# Altium footprint library Connector_Samtec_HLE_SMD.PcbLib: 290 footprints (part 16 of 24)
Each footprint in its own frame and in the unit in brackets; x right, y up, seen from the top. Pads: shape width x height; smd on the part's side, far side on the other; paste and mask are expansions set on the pad; w line width, h text height; cw(c..) or ccw(c..) is an arc to the next point about the centre after c.
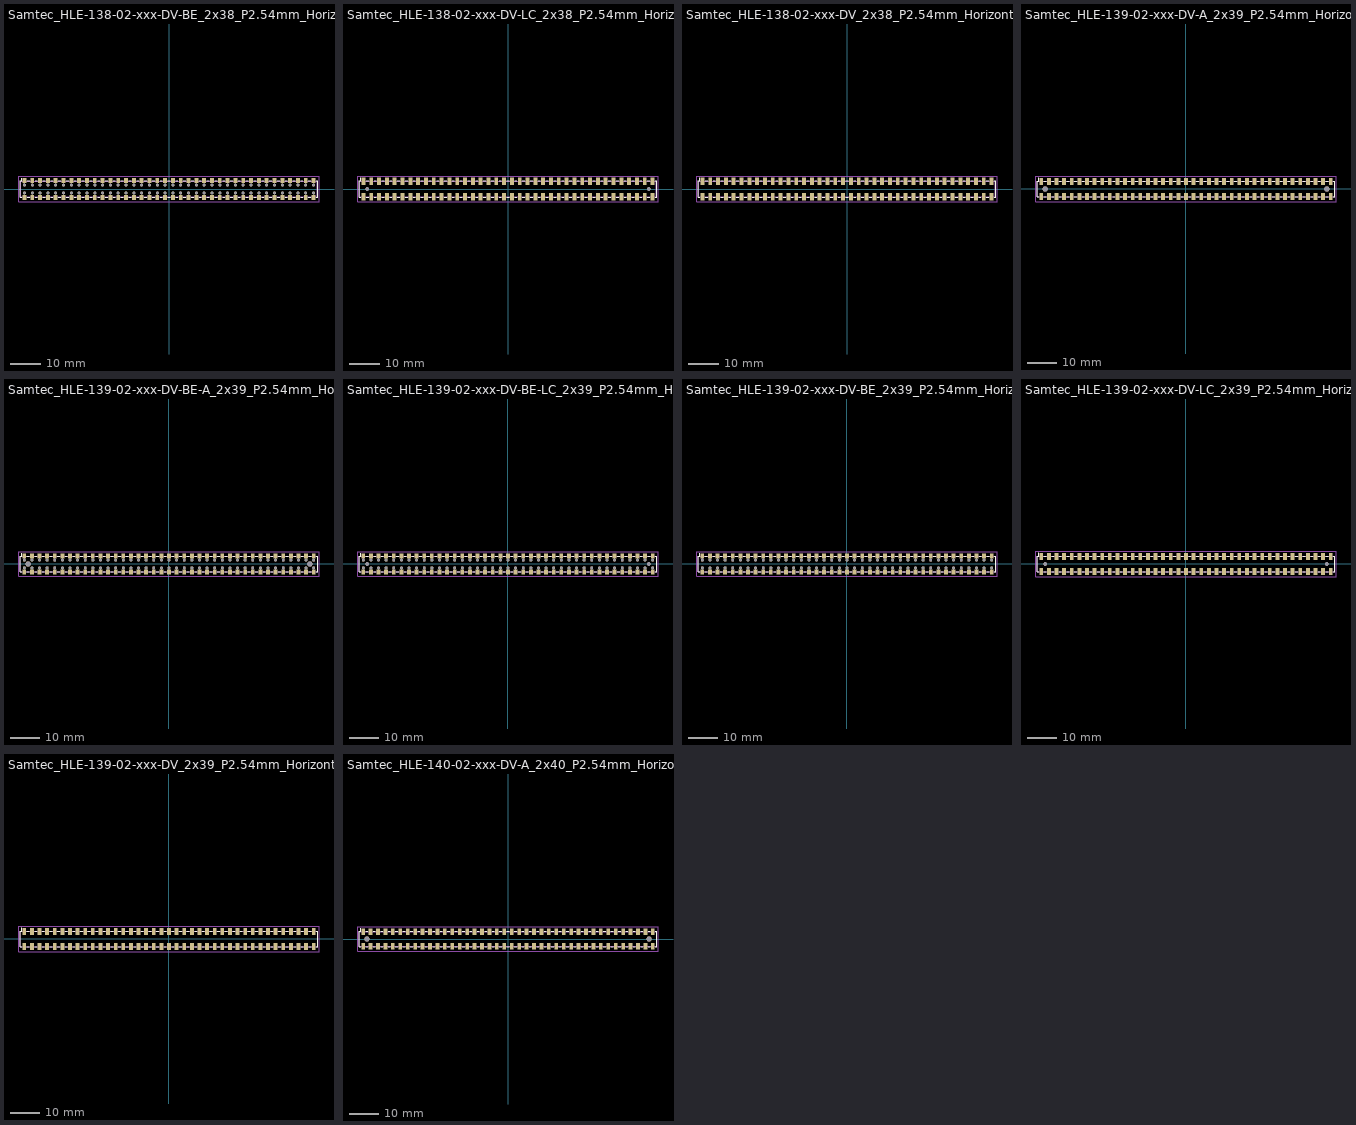
[diagram p15: the footprints below, top view; thin cyan lines are the x and y axes]

## Samtec_HLE-138-02-xxx-DV-BE_2x38_P2.54mm_Horizontal [mm]
pads (152):
  rect 1.27x1.68 smd: 1(-46.99,2.72) 2(-46.99,-2.72) 3(-44.45,2.72) 4(-44.45,-2.72) 5(-41.91,2.72) 6(-41.91,-2.72) 7(-39.37,2.72) 8(-39.37,-2.72) 9(-36.83,2.72) 10(-36.83,-2.72) 11(-34.29,2.72) 12(-34.29,-2.72) 13(-31.75,2.72) 14(-31.75,-2.72) 15(-29.21,2.72) 16(-29.21,-2.72) 17(-26.67,2.72) 18(-26.67,-2.72) 19(-24.13,2.72) 20(-24.13,-2.72) 21(-21.59,2.72) 22(-21.59,-2.72) 23(-19.05,2.72) 24(-19.05,-2.72) 25(-16.51,2.72) 26(-16.51,-2.72) 27(-13.97,2.72) 28(-13.97,-2.72) 29(-11.43,2.72) 30(-11.43,-2.72) 31(-8.89,2.72) 32(-8.89,-2.72) 33(-6.35,2.72) 34(-6.35,-2.72) 35(-3.81,2.72) 36(-3.81,-2.72) 37(-1.27,2.72) 38(-1.27,-2.72) 39(1.27,2.72) 40(1.27,-2.72) 41(3.81,2.72) 42(3.81,-2.72) 43(6.35,2.72) 44(6.35,-2.72) 45(8.89,2.72) 46(8.89,-2.72) 47(11.43,2.72) 48(11.43,-2.72) 49(13.97,2.72) 50(13.97,-2.72) 51(16.51,2.72) 52(16.51,-2.72) 53(19.05,2.72) 54(19.05,-2.72) 55(21.59,2.72) 56(21.59,-2.72) 57(24.13,2.72) 58(24.13,-2.72) 59(26.67,2.72) 60(26.67,-2.72) 61(29.21,2.72) 62(29.21,-2.72) 63(31.75,2.72) 64(31.75,-2.72) 65(34.29,2.72) 66(34.29,-2.72) 67(36.83,2.72) 68(36.83,-2.72) 69(39.37,2.72) 70(39.37,-2.72) 71(41.91,2.72) 72(41.91,-2.72) 73(44.45,2.72) 74(44.45,-2.72) 75(46.99,2.72) 76(46.99,-2.72)
  round 0.97 hole 0.97: Un1(-46.99,1.27) Un2(-46.99,-1.27) Un3(-44.45,1.27) Un4(-44.45,-1.27) Un5(-41.91,1.27) Un6(-41.91,-1.27) Un7(-39.37,1.27) Un8(-39.37,-1.27) Un9(-36.83,1.27) Un10(-36.83,-1.27) Un11(-34.29,1.27) Un12(-34.29,-1.27) Un13(-31.75,1.27) Un14(-31.75,-1.27) Un15(-29.21,1.27) Un16(-29.21,-1.27) Un17(-26.67,1.27) Un18(-26.67,-1.27) Un19(-24.13,1.27) Un20(-24.13,-1.27) Un21(-21.59,1.27) Un22(-21.59,-1.27) Un23(-19.05,1.27) Un24(-19.05,-1.27) Un25(-16.51,1.27) Un26(-16.51,-1.27) Un27(-13.97,1.27) Un28(-13.97,-1.27) Un29(-11.43,1.27) Un30(-11.43,-1.27) Un31(-8.89,1.27) Un32(-8.89,-1.27) Un33(-6.35,1.27) Un34(-6.35,-1.27) Un35(-3.81,1.27) Un36(-3.81,-1.27) Un37(-1.27,1.27) Un38(-1.27,-1.27) Un39(1.27,1.27) Un40(1.27,-1.27) Un41(3.81,1.27) Un42(3.81,-1.27) Un43(6.35,1.27) Un44(6.35,-1.27) Un45(8.89,1.27) Un46(8.89,-1.27) Un47(11.43,1.27) Un48(11.43,-1.27) Un49(13.97,1.27) Un50(13.97,-1.27) Un51(16.51,1.27) Un52(16.51,-1.27) Un53(19.05,1.27) Un54(19.05,-1.27) Un55(21.59,1.27) Un56(21.59,-1.27) Un57(24.13,1.27) Un58(24.13,-1.27) Un59(26.67,1.27) Un60(26.67,-1.27) Un61(29.21,1.27) Un62(29.21,-1.27) Un63(31.75,1.27) Un64(31.75,-1.27) Un65(34.29,1.27) Un66(34.29,-1.27) Un67(36.83,1.27) Un68(36.83,-1.27) Un69(39.37,1.27) Un70(39.37,-1.27) Un71(41.91,1.27) Un72(41.91,-1.27) Un73(44.45,1.27) Un74(44.45,-1.27) Un75(46.99,1.27) Un76(46.99,-1.27)
F.SilkS:
  lines w0.254: -47.885,-2.65 -48.37,-2.65 -48.37,2.65 -47.885,2.65 -47.885,3.56 ; -46.095,-2.65 -45.345,-2.65 ; -46.095,2.65 -45.345,2.65 ; -43.555,-2.65 -42.805,-2.65 ; -43.555,2.65 -42.805,2.65 ; -41.015,-2.65 -40.265,-2.65 ; -41.015,2.65 -40.265,2.65 ; -38.475,-2.65 -37.725,-2.65 ; -38.475,2.65 -37.725,2.65 ; -35.935,-2.65 -35.185,-2.65 ; -35.935,2.65 -35.185,2.65 ; -33.395,-2.65 -32.645,-2.65 ; -33.395,2.65 -32.645,2.65 ; -30.855,-2.65 -30.105,-2.65 ; -30.855,2.65 -30.105,2.65 ; -28.315,-2.65 -27.565,-2.65 ; -28.315,2.65 -27.565,2.65 ; -25.775,-2.65 -25.025,-2.65 ; -25.775,2.65 -25.025,2.65 ; -23.235,-2.65 -22.485,-2.65 ; -23.235,2.65 -22.485,2.65 ; -20.695,-2.65 -19.945,-2.65 ; -20.695,2.65 -19.945,2.65 ; -18.155,-2.65 -17.405,-2.65 ; -18.155,2.65 -17.405,2.65 ; -15.615,-2.65 -14.865,-2.65 ; -15.615,2.65 -14.865,2.65 ; -13.075,-2.65 -12.325,-2.65 ; -13.075,2.65 -12.325,2.65 ; -10.535,-2.65 -9.785,-2.65 ; -10.535,2.65 -9.785,2.65 ; -7.995,-2.65 -7.245,-2.65 ; -7.995,2.65 -7.245,2.65 ; -5.455,-2.65 -4.705,-2.65 ; -5.455,2.65 -4.705,2.65 ; -2.915,-2.65 -2.165,-2.65 ; -2.915,2.65 -2.165,2.65 ; -0.375,-2.65 0.375,-2.65 ; -0.375,2.65 0.375,2.65 ; 2.165,-2.65 2.915,-2.65 ; 2.165,2.65 2.915,2.65 ; 4.705,-2.65 5.455,-2.65 ; 4.705,2.65 5.455,2.65 ; 7.245,-2.65 7.995,-2.65 ; 7.245,2.65 7.995,2.65 ; 9.785,-2.65 10.535,-2.65 ; 9.785,2.65 10.535,2.65 ; 12.325,-2.65 13.075,-2.65 ; 12.325,2.65 13.075,2.65 ; 14.865,-2.65 15.615,-2.65 ; 14.865,2.65 15.615,2.65 ; 17.405,-2.65 18.155,-2.65 ; 17.405,2.65 18.155,2.65 ; 19.945,-2.65 20.695,-2.65 ; 19.945,2.65 20.695,2.65 ; 22.485,-2.65 23.235,-2.65 ; 22.485,2.65 23.235,2.65 ; 25.025,-2.65 25.775,-2.65 ; 25.025,2.65 25.775,2.65 ; 27.565,-2.65 28.315,-2.65 ; 27.565,2.65 28.315,2.65 ; 30.105,-2.65 30.855,-2.65 ; 30.105,2.65 30.855,2.65 ; 32.645,-2.65 33.395,-2.65 ; 32.645,2.65 33.395,2.65 ; 35.185,-2.65 35.935,-2.65 ; 35.185,2.65 35.935,2.65 ; 37.725,-2.65 38.475,-2.65 ; 37.725,2.65 38.475,2.65 ; 40.265,-2.65 41.015,-2.65 ; 40.265,2.65 41.015,2.65 ; 42.805,-2.65 43.555,-2.65 ; 42.805,2.65 43.555,2.65 ; 45.345,-2.65 46.095,-2.65 ; 45.345,2.65 46.095,2.65 ; 47.885,-2.65 48.37,-2.65 48.37,2.65 47.885,2.65
Top Assembly:
  lines w0.254: -47.49,2.54 -46.99,1.833 -46.49,2.54 ; -48.26,-2.54 48.26,-2.54 48.26,2.54 -48.26,2.54 -48.26,-2.54
  text "'.Designator'" at -4.047,-2.68 h1
Top Courtyard:
  lines w0.254: -48.76,-4.07 48.76,-4.07 48.76,4.07 -48.76,4.07 -48.76,-4.07
Top Designator:
  text ".Designator" at -7.618,-0.508 h1.52

## Samtec_HLE-138-02-xxx-DV-LC_2x38_P2.54mm_Horizontal [mm]
pads (78):
  rect 1.27x2.29 smd: 1(-46.99,2.525) 2(-46.99,-2.525) 3(-44.45,2.525) 4(-44.45,-2.525) 5(-41.91,2.525) 6(-41.91,-2.525) 7(-39.37,2.525) 8(-39.37,-2.525) 9(-36.83,2.525) 10(-36.83,-2.525) 11(-34.29,2.525) 12(-34.29,-2.525) 13(-31.75,2.525) 14(-31.75,-2.525) 15(-29.21,2.525) 16(-29.21,-2.525) 17(-26.67,2.525) 18(-26.67,-2.525) 19(-24.13,2.525) 20(-24.13,-2.525) 21(-21.59,2.525) 22(-21.59,-2.525) 23(-19.05,2.525) 24(-19.05,-2.525) 25(-16.51,2.525) 26(-16.51,-2.525) 27(-13.97,2.525) 28(-13.97,-2.525) 29(-11.43,2.525) 30(-11.43,-2.525) 31(-8.89,2.525) 32(-8.89,-2.525) 33(-6.35,2.525) 34(-6.35,-2.525) 35(-3.81,2.525) 36(-3.81,-2.525) 37(-1.27,2.525) 38(-1.27,-2.525) 39(1.27,2.525) 40(1.27,-2.525) 41(3.81,2.525) 42(3.81,-2.525) 43(6.35,2.525) 44(6.35,-2.525) 45(8.89,2.525) 46(8.89,-2.525) 47(11.43,2.525) 48(11.43,-2.525) 49(13.97,2.525) 50(13.97,-2.525) 51(16.51,2.525) 52(16.51,-2.525) 53(19.05,2.525) 54(19.05,-2.525) 55(21.59,2.525) 56(21.59,-2.525) 57(24.13,2.525) 58(24.13,-2.525) 59(26.67,2.525) 60(26.67,-2.525) 61(29.21,2.525) 62(29.21,-2.525) 63(31.75,2.525) 64(31.75,-2.525) 65(34.29,2.525) 66(34.29,-2.525) 67(36.83,2.525) 68(36.83,-2.525) 69(39.37,2.525) 70(39.37,-2.525) 71(41.91,2.525) 72(41.91,-2.525) 73(44.45,2.525) 74(44.45,-2.525) 75(46.99,2.525) 76(46.99,-2.525)
  round 1.19 hole 1.19: Un1(-45.72,0) Un2(45.72,0)
F.SilkS:
  lines w0.254: -47.885,-2.65 -48.37,-2.65 -48.37,2.65 -47.885,2.65 -47.885,3.67 ; -46.095,-2.65 -45.345,-2.65 ; -46.095,2.65 -45.345,2.65 ; -43.555,-2.65 -42.805,-2.65 ; -43.555,2.65 -42.805,2.65 ; -41.015,-2.65 -40.265,-2.65 ; -41.015,2.65 -40.265,2.65 ; -38.475,-2.65 -37.725,-2.65 ; -38.475,2.65 -37.725,2.65 ; -35.935,-2.65 -35.185,-2.65 ; -35.935,2.65 -35.185,2.65 ; -33.395,-2.65 -32.645,-2.65 ; -33.395,2.65 -32.645,2.65 ; -30.855,-2.65 -30.105,-2.65 ; -30.855,2.65 -30.105,2.65 ; -28.315,-2.65 -27.565,-2.65 ; -28.315,2.65 -27.565,2.65 ; -25.775,-2.65 -25.025,-2.65 ; -25.775,2.65 -25.025,2.65 ; -23.235,-2.65 -22.485,-2.65 ; -23.235,2.65 -22.485,2.65 ; -20.695,-2.65 -19.945,-2.65 ; -20.695,2.65 -19.945,2.65 ; -18.155,-2.65 -17.405,-2.65 ; -18.155,2.65 -17.405,2.65 ; -15.615,-2.65 -14.865,-2.65 ; -15.615,2.65 -14.865,2.65 ; -13.075,-2.65 -12.325,-2.65 ; -13.075,2.65 -12.325,2.65 ; -10.535,-2.65 -9.785,-2.65 ; -10.535,2.65 -9.785,2.65 ; -7.995,-2.65 -7.245,-2.65 ; -7.995,2.65 -7.245,2.65 ; -5.455,-2.65 -4.705,-2.65 ; -5.455,2.65 -4.705,2.65 ; -2.915,-2.65 -2.165,-2.65 ; -2.915,2.65 -2.165,2.65 ; -0.375,-2.65 0.375,-2.65 ; -0.375,2.65 0.375,2.65 ; 2.165,-2.65 2.915,-2.65 ; 2.165,2.65 2.915,2.65 ; 4.705,-2.65 5.455,-2.65 ; 4.705,2.65 5.455,2.65 ; 7.245,-2.65 7.995,-2.65 ; 7.245,2.65 7.995,2.65 ; 9.785,-2.65 10.535,-2.65 ; 9.785,2.65 10.535,2.65 ; 12.325,-2.65 13.075,-2.65 ; 12.325,2.65 13.075,2.65 ; 14.865,-2.65 15.615,-2.65 ; 14.865,2.65 15.615,2.65 ; 17.405,-2.65 18.155,-2.65 ; 17.405,2.65 18.155,2.65 ; 19.945,-2.65 20.695,-2.65 ; 19.945,2.65 20.695,2.65 ; 22.485,-2.65 23.235,-2.65 ; 22.485,2.65 23.235,2.65 ; 25.025,-2.65 25.775,-2.65 ; 25.025,2.65 25.775,2.65 ; 27.565,-2.65 28.315,-2.65 ; 27.565,2.65 28.315,2.65 ; 30.105,-2.65 30.855,-2.65 ; 30.105,2.65 30.855,2.65 ; 32.645,-2.65 33.395,-2.65 ; 32.645,2.65 33.395,2.65 ; 35.185,-2.65 35.935,-2.65 ; 35.185,2.65 35.935,2.65 ; 37.725,-2.65 38.475,-2.65 ; 37.725,2.65 38.475,2.65 ; 40.265,-2.65 41.015,-2.65 ; 40.265,2.65 41.015,2.65 ; 42.805,-2.65 43.555,-2.65 ; 42.805,2.65 43.555,2.65 ; 45.345,-2.65 46.095,-2.65 ; 45.345,2.65 46.095,2.65 ; 47.885,-2.65 48.37,-2.65 48.37,2.65 47.885,2.65
Top Assembly:
  lines w0.254: -47.49,2.54 -46.99,1.833 -46.49,2.54 ; -48.26,-2.54 48.26,-2.54 48.26,2.54 -48.26,2.54 -48.26,-2.54
  text "'.Designator'" at -4.047,-2.68 h1
Top Courtyard:
  lines w0.254: -48.76,-4.17 48.76,-4.17 48.76,4.17 -48.76,4.17 -48.76,-4.17
Top Designator:
  text ".Designator" at -7.618,-0.508 h1.52

## Samtec_HLE-138-02-xxx-DV_2x38_P2.54mm_Horizontal [mm]
pads (76):
  rect 1.27x2.29 smd: 1(-46.99,2.525) 2(-46.99,-2.525) 3(-44.45,2.525) 4(-44.45,-2.525) 5(-41.91,2.525) 6(-41.91,-2.525) 7(-39.37,2.525) 8(-39.37,-2.525) 9(-36.83,2.525) 10(-36.83,-2.525) 11(-34.29,2.525) 12(-34.29,-2.525) 13(-31.75,2.525) 14(-31.75,-2.525) 15(-29.21,2.525) 16(-29.21,-2.525) 17(-26.67,2.525) 18(-26.67,-2.525) 19(-24.13,2.525) 20(-24.13,-2.525) 21(-21.59,2.525) 22(-21.59,-2.525) 23(-19.05,2.525) 24(-19.05,-2.525) 25(-16.51,2.525) 26(-16.51,-2.525) 27(-13.97,2.525) 28(-13.97,-2.525) 29(-11.43,2.525) 30(-11.43,-2.525) 31(-8.89,2.525) 32(-8.89,-2.525) 33(-6.35,2.525) 34(-6.35,-2.525) 35(-3.81,2.525) 36(-3.81,-2.525) 37(-1.27,2.525) 38(-1.27,-2.525) 39(1.27,2.525) 40(1.27,-2.525) 41(3.81,2.525) 42(3.81,-2.525) 43(6.35,2.525) 44(6.35,-2.525) 45(8.89,2.525) 46(8.89,-2.525) 47(11.43,2.525) 48(11.43,-2.525) 49(13.97,2.525) 50(13.97,-2.525) 51(16.51,2.525) 52(16.51,-2.525) 53(19.05,2.525) 54(19.05,-2.525) 55(21.59,2.525) 56(21.59,-2.525) 57(24.13,2.525) 58(24.13,-2.525) 59(26.67,2.525) 60(26.67,-2.525) 61(29.21,2.525) 62(29.21,-2.525) 63(31.75,2.525) 64(31.75,-2.525) 65(34.29,2.525) 66(34.29,-2.525) 67(36.83,2.525) 68(36.83,-2.525) 69(39.37,2.525) 70(39.37,-2.525) 71(41.91,2.525) 72(41.91,-2.525) 73(44.45,2.525) 74(44.45,-2.525) 75(46.99,2.525) 76(46.99,-2.525)
F.SilkS:
  lines w0.254: -47.885,-2.65 -48.37,-2.65 -48.37,2.65 -47.885,2.65 -47.885,3.67 ; -46.095,-2.65 -45.345,-2.65 ; -46.095,2.65 -45.345,2.65 ; -43.555,-2.65 -42.805,-2.65 ; -43.555,2.65 -42.805,2.65 ; -41.015,-2.65 -40.265,-2.65 ; -41.015,2.65 -40.265,2.65 ; -38.475,-2.65 -37.725,-2.65 ; -38.475,2.65 -37.725,2.65 ; -35.935,-2.65 -35.185,-2.65 ; -35.935,2.65 -35.185,2.65 ; -33.395,-2.65 -32.645,-2.65 ; -33.395,2.65 -32.645,2.65 ; -30.855,-2.65 -30.105,-2.65 ; -30.855,2.65 -30.105,2.65 ; -28.315,-2.65 -27.565,-2.65 ; -28.315,2.65 -27.565,2.65 ; -25.775,-2.65 -25.025,-2.65 ; -25.775,2.65 -25.025,2.65 ; -23.235,-2.65 -22.485,-2.65 ; -23.235,2.65 -22.485,2.65 ; -20.695,-2.65 -19.945,-2.65 ; -20.695,2.65 -19.945,2.65 ; -18.155,-2.65 -17.405,-2.65 ; -18.155,2.65 -17.405,2.65 ; -15.615,-2.65 -14.865,-2.65 ; -15.615,2.65 -14.865,2.65 ; -13.075,-2.65 -12.325,-2.65 ; -13.075,2.65 -12.325,2.65 ; -10.535,-2.65 -9.785,-2.65 ; -10.535,2.65 -9.785,2.65 ; -7.995,-2.65 -7.245,-2.65 ; -7.995,2.65 -7.245,2.65 ; -5.455,-2.65 -4.705,-2.65 ; -5.455,2.65 -4.705,2.65 ; -2.915,-2.65 -2.165,-2.65 ; -2.915,2.65 -2.165,2.65 ; -0.375,-2.65 0.375,-2.65 ; -0.375,2.65 0.375,2.65 ; 2.165,-2.65 2.915,-2.65 ; 2.165,2.65 2.915,2.65 ; 4.705,-2.65 5.455,-2.65 ; 4.705,2.65 5.455,2.65 ; 7.245,-2.65 7.995,-2.65 ; 7.245,2.65 7.995,2.65 ; 9.785,-2.65 10.535,-2.65 ; 9.785,2.65 10.535,2.65 ; 12.325,-2.65 13.075,-2.65 ; 12.325,2.65 13.075,2.65 ; 14.865,-2.65 15.615,-2.65 ; 14.865,2.65 15.615,2.65 ; 17.405,-2.65 18.155,-2.65 ; 17.405,2.65 18.155,2.65 ; 19.945,-2.65 20.695,-2.65 ; 19.945,2.65 20.695,2.65 ; 22.485,-2.65 23.235,-2.65 ; 22.485,2.65 23.235,2.65 ; 25.025,-2.65 25.775,-2.65 ; 25.025,2.65 25.775,2.65 ; 27.565,-2.65 28.315,-2.65 ; 27.565,2.65 28.315,2.65 ; 30.105,-2.65 30.855,-2.65 ; 30.105,2.65 30.855,2.65 ; 32.645,-2.65 33.395,-2.65 ; 32.645,2.65 33.395,2.65 ; 35.185,-2.65 35.935,-2.65 ; 35.185,2.65 35.935,2.65 ; 37.725,-2.65 38.475,-2.65 ; 37.725,2.65 38.475,2.65 ; 40.265,-2.65 41.015,-2.65 ; 40.265,2.65 41.015,2.65 ; 42.805,-2.65 43.555,-2.65 ; 42.805,2.65 43.555,2.65 ; 45.345,-2.65 46.095,-2.65 ; 45.345,2.65 46.095,2.65 ; 47.885,-2.65 48.37,-2.65 48.37,2.65 47.885,2.65
Top Assembly:
  lines w0.254: -47.49,2.54 -46.99,1.833 -46.49,2.54 ; -48.26,-2.54 48.26,-2.54 48.26,2.54 -48.26,2.54 -48.26,-2.54
  text "'.Designator'" at -4.047,-2.68 h1
Top Courtyard:
  lines w0.254: -48.76,-4.17 48.76,-4.17 48.76,4.17 -48.76,4.17 -48.76,-4.17
Top Designator:
  text ".Designator" at -7.618,-0.508 h1.52

## Samtec_HLE-139-02-xxx-DV-A_2x39_P2.54mm_Horizontal [mm]
pads (80):
  rect 1.27x2.29 smd: 1(-48.26,2.525) 2(-48.26,-2.525) 3(-45.72,2.525) 4(-45.72,-2.525) 5(-43.18,2.525) 6(-43.18,-2.525) 7(-40.64,2.525) 8(-40.64,-2.525) 9(-38.1,2.525) 10(-38.1,-2.525) 11(-35.56,2.525) 12(-35.56,-2.525) 13(-33.02,2.525) 14(-33.02,-2.525) 15(-30.48,2.525) 16(-30.48,-2.525) 17(-27.94,2.525) 18(-27.94,-2.525) 19(-25.4,2.525) 20(-25.4,-2.525) 21(-22.86,2.525) 22(-22.86,-2.525) 23(-20.32,2.525) 24(-20.32,-2.525) 25(-17.78,2.525) 26(-17.78,-2.525) 27(-15.24,2.525) 28(-15.24,-2.525) 29(-12.7,2.525) 30(-12.7,-2.525) 31(-10.16,2.525) 32(-10.16,-2.525) 33(-7.62,2.525) 34(-7.62,-2.525) 35(-5.08,2.525) 36(-5.08,-2.525) 37(-2.54,2.525) 38(-2.54,-2.525) 39(0,2.525) 40(0,-2.525) 41(2.54,2.525) 42(2.54,-2.525) 43(5.08,2.525) 44(5.08,-2.525) 45(7.62,2.525) 46(7.62,-2.525) 47(10.16,2.525) 48(10.16,-2.525) 49(12.7,2.525) 50(12.7,-2.525) 51(15.24,2.525) 52(15.24,-2.525) 53(17.78,2.525) 54(17.78,-2.525) 55(20.32,2.525) 56(20.32,-2.525) 57(22.86,2.525) 58(22.86,-2.525) 59(25.4,2.525) 60(25.4,-2.525) 61(27.94,2.525) 62(27.94,-2.525) 63(30.48,2.525) 64(30.48,-2.525) 65(33.02,2.525) 66(33.02,-2.525) 67(35.56,2.525) 68(35.56,-2.525) 69(38.1,2.525) 70(38.1,-2.525) 71(40.64,2.525) 72(40.64,-2.525) 73(43.18,2.525) 74(43.18,-2.525) 75(45.72,2.525) 76(45.72,-2.525) 77(48.26,2.525) 78(48.26,-2.525)
  round 1.78 hole 1.78: Un1(-46.99,0) Un2(46.99,0)
F.SilkS:
  lines w0.254: -49.155,-2.65 -49.64,-2.65 -49.64,2.65 -49.155,2.65 -49.155,3.67 ; -47.365,-2.65 -46.615,-2.65 ; -47.365,2.65 -46.615,2.65 ; -44.825,-2.65 -44.075,-2.65 ; -44.825,2.65 -44.075,2.65 ; -42.285,-2.65 -41.535,-2.65 ; -42.285,2.65 -41.535,2.65 ; -39.745,-2.65 -38.995,-2.65 ; -39.745,2.65 -38.995,2.65 ; -37.205,-2.65 -36.455,-2.65 ; -37.205,2.65 -36.455,2.65 ; -34.665,-2.65 -33.915,-2.65 ; -34.665,2.65 -33.915,2.65 ; -32.125,-2.65 -31.375,-2.65 ; -32.125,2.65 -31.375,2.65 ; -29.585,-2.65 -28.835,-2.65 ; -29.585,2.65 -28.835,2.65 ; -27.045,-2.65 -26.295,-2.65 ; -27.045,2.65 -26.295,2.65 ; -24.505,-2.65 -23.755,-2.65 ; -24.505,2.65 -23.755,2.65 ; -21.965,-2.65 -21.215,-2.65 ; -21.965,2.65 -21.215,2.65 ; -19.425,-2.65 -18.675,-2.65 ; -19.425,2.65 -18.675,2.65 ; -16.885,-2.65 -16.135,-2.65 ; -16.885,2.65 -16.135,2.65 ; -14.345,-2.65 -13.595,-2.65 ; -14.345,2.65 -13.595,2.65 ; -11.805,-2.65 -11.055,-2.65 ; -11.805,2.65 -11.055,2.65 ; -9.265,-2.65 -8.515,-2.65 ; -9.265,2.65 -8.515,2.65 ; -6.725,-2.65 -5.975,-2.65 ; -6.725,2.65 -5.975,2.65 ; -4.185,-2.65 -3.435,-2.65 ; -4.185,2.65 -3.435,2.65 ; -1.645,-2.65 -0.895,-2.65 ; -1.645,2.65 -0.895,2.65 ; 0.895,-2.65 1.645,-2.65 ; 0.895,2.65 1.645,2.65 ; 3.435,-2.65 4.185,-2.65 ; 3.435,2.65 4.185,2.65 ; 5.975,-2.65 6.725,-2.65 ; 5.975,2.65 6.725,2.65 ; 8.515,-2.65 9.265,-2.65 ; 8.515,2.65 9.265,2.65 ; 11.055,-2.65 11.805,-2.65 ; 11.055,2.65 11.805,2.65 ; 13.595,-2.65 14.345,-2.65 ; 13.595,2.65 14.345,2.65 ; 16.135,-2.65 16.885,-2.65 ; 16.135,2.65 16.885,2.65 ; 18.675,-2.65 19.425,-2.65 ; 18.675,2.65 19.425,2.65 ; 21.215,-2.65 21.965,-2.65 ; 21.215,2.65 21.965,2.65 ; 23.755,-2.65 24.505,-2.65 ; 23.755,2.65 24.505,2.65 ; 26.295,-2.65 27.045,-2.65 ; 26.295,2.65 27.045,2.65 ; 28.835,-2.65 29.585,-2.65 ; 28.835,2.65 29.585,2.65 ; 31.375,-2.65 32.125,-2.65 ; 31.375,2.65 32.125,2.65 ; 33.915,-2.65 34.665,-2.65 ; 33.915,2.65 34.665,2.65 ; 36.455,-2.65 37.205,-2.65 ; 36.455,2.65 37.205,2.65 ; 38.995,-2.65 39.745,-2.65 ; 38.995,2.65 39.745,2.65 ; 41.535,-2.65 42.285,-2.65 ; 41.535,2.65 42.285,2.65 ; 44.075,-2.65 44.825,-2.65 ; 44.075,2.65 44.825,2.65 ; 46.615,-2.65 47.365,-2.65 ; 46.615,2.65 47.365,2.65 ; 49.155,-2.65 49.64,-2.65 49.64,2.65 49.155,2.65
Top Assembly:
  lines w0.254: -48.76,2.54 -48.26,1.833 -47.76,2.54 ; -49.53,-2.54 49.53,-2.54 49.53,2.54 -49.53,2.54 -49.53,-2.54
  text "'.Designator'" at -4.047,-2.68 h1
Top Courtyard:
  lines w0.254: -50.03,-4.17 50.03,-4.17 50.03,4.17 -50.03,4.17 -50.03,-4.17
Top Designator:
  text ".Designator" at -7.618,-0.508 h1.52

## Samtec_HLE-139-02-xxx-DV-BE-A_2x39_P2.54mm_Horizontal [mm]
pads (158):
  rect 1.27x1.68 smd: 1(-48.26,2.72) 2(-48.26,-2.72) 3(-45.72,2.72) 4(-45.72,-2.72) 5(-43.18,2.72) 6(-43.18,-2.72) 7(-40.64,2.72) 8(-40.64,-2.72) 9(-38.1,2.72) 10(-38.1,-2.72) 11(-35.56,2.72) 12(-35.56,-2.72) 13(-33.02,2.72) 14(-33.02,-2.72) 15(-30.48,2.72) 16(-30.48,-2.72) 17(-27.94,2.72) 18(-27.94,-2.72) 19(-25.4,2.72) 20(-25.4,-2.72) 21(-22.86,2.72) 22(-22.86,-2.72) 23(-20.32,2.72) 24(-20.32,-2.72) 25(-17.78,2.72) 26(-17.78,-2.72) 27(-15.24,2.72) 28(-15.24,-2.72) 29(-12.7,2.72) 30(-12.7,-2.72) 31(-10.16,2.72) 32(-10.16,-2.72) 33(-7.62,2.72) 34(-7.62,-2.72) 35(-5.08,2.72) 36(-5.08,-2.72) 37(-2.54,2.72) 38(-2.54,-2.72) 39(0,2.72) 40(0,-2.72) 41(2.54,2.72) 42(2.54,-2.72) 43(5.08,2.72) 44(5.08,-2.72) 45(7.62,2.72) 46(7.62,-2.72) 47(10.16,2.72) 48(10.16,-2.72) 49(12.7,2.72) 50(12.7,-2.72) 51(15.24,2.72) 52(15.24,-2.72) 53(17.78,2.72) 54(17.78,-2.72) 55(20.32,2.72) 56(20.32,-2.72) 57(22.86,2.72) 58(22.86,-2.72) 59(25.4,2.72) 60(25.4,-2.72) 61(27.94,2.72) 62(27.94,-2.72) 63(30.48,2.72) 64(30.48,-2.72) 65(33.02,2.72) 66(33.02,-2.72) 67(35.56,2.72) 68(35.56,-2.72) 69(38.1,2.72) 70(38.1,-2.72) 71(40.64,2.72) 72(40.64,-2.72) 73(43.18,2.72) 74(43.18,-2.72) 75(45.72,2.72) 76(45.72,-2.72) 77(48.26,2.72) 78(48.26,-2.72)
  round 0.97 hole 0.97: Un1(-48.26,1.27) Un2(-48.26,-1.27) Un4(-45.72,1.27) Un5(-45.72,-1.27) Un6(-43.18,1.27) Un7(-43.18,-1.27) Un8(-40.64,1.27) Un9(-40.64,-1.27) Un10(-38.1,1.27) Un11(-38.1,-1.27) Un12(-35.56,1.27) Un13(-35.56,-1.27) Un14(-33.02,1.27) Un15(-33.02,-1.27) Un16(-30.48,1.27) Un17(-30.48,-1.27) Un18(-27.94,1.27) Un19(-27.94,-1.27) Un20(-25.4,1.27) Un21(-25.4,-1.27) Un22(-22.86,1.27) Un23(-22.86,-1.27) Un24(-20.32,1.27) Un25(-20.32,-1.27) Un26(-17.78,1.27) Un27(-17.78,-1.27) Un28(-15.24,1.27) Un29(-15.24,-1.27) Un30(-12.7,1.27) Un31(-12.7,-1.27) Un32(-10.16,1.27) Un33(-10.16,-1.27) Un34(-7.62,1.27) Un35(-7.62,-1.27) Un36(-5.08,1.27) Un37(-5.08,-1.27) Un38(-2.54,1.27) Un39(-2.54,-1.27) Un40(0,1.27) Un41(0,-1.27) Un42(2.54,1.27) Un43(2.54,-1.27) Un44(5.08,1.27) Un45(5.08,-1.27) Un46(7.62,1.27) Un47(7.62,-1.27) Un48(10.16,1.27) Un49(10.16,-1.27) Un50(12.7,1.27) Un51(12.7,-1.27) Un52(15.24,1.27) Un53(15.24,-1.27) Un54(17.78,1.27) Un55(17.78,-1.27) Un56(20.32,1.27) Un57(20.32,-1.27) Un58(22.86,1.27) Un59(22.86,-1.27) Un60(25.4,1.27) Un61(25.4,-1.27) Un62(27.94,1.27) Un63(27.94,-1.27) Un64(30.48,1.27) Un65(30.48,-1.27) Un66(33.02,1.27) Un67(33.02,-1.27) Un68(35.56,1.27) Un69(35.56,-1.27) Un70(38.1,1.27) Un71(38.1,-1.27) Un72(40.64,1.27) Un73(40.64,-1.27) Un74(43.18,1.27) Un75(43.18,-1.27) Un76(45.72,1.27) Un77(45.72,-1.27) Un79(48.26,1.27) Un80(48.26,-1.27)
  round 1.78 hole 1.78: Un3(-46.99,0) Un78(46.99,0)
F.SilkS:
  lines w0.254: -49.155,-2.65 -49.64,-2.65 -49.64,2.65 -49.155,2.65 -49.155,3.56 ; -47.365,-2.65 -46.615,-2.65 ; -47.365,2.65 -46.615,2.65 ; -44.825,-2.65 -44.075,-2.65 ; -44.825,2.65 -44.075,2.65 ; -42.285,-2.65 -41.535,-2.65 ; -42.285,2.65 -41.535,2.65 ; -39.745,-2.65 -38.995,-2.65 ; -39.745,2.65 -38.995,2.65 ; -37.205,-2.65 -36.455,-2.65 ; -37.205,2.65 -36.455,2.65 ; -34.665,-2.65 -33.915,-2.65 ; -34.665,2.65 -33.915,2.65 ; -32.125,-2.65 -31.375,-2.65 ; -32.125,2.65 -31.375,2.65 ; -29.585,-2.65 -28.835,-2.65 ; -29.585,2.65 -28.835,2.65 ; -27.045,-2.65 -26.295,-2.65 ; -27.045,2.65 -26.295,2.65 ; -24.505,-2.65 -23.755,-2.65 ; -24.505,2.65 -23.755,2.65 ; -21.965,-2.65 -21.215,-2.65 ; -21.965,2.65 -21.215,2.65 ; -19.425,-2.65 -18.675,-2.65 ; -19.425,2.65 -18.675,2.65 ; -16.885,-2.65 -16.135,-2.65 ; -16.885,2.65 -16.135,2.65 ; -14.345,-2.65 -13.595,-2.65 ; -14.345,2.65 -13.595,2.65 ; -11.805,-2.65 -11.055,-2.65 ; -11.805,2.65 -11.055,2.65 ; -9.265,-2.65 -8.515,-2.65 ; -9.265,2.65 -8.515,2.65 ; -6.725,-2.65 -5.975,-2.65 ; -6.725,2.65 -5.975,2.65 ; -4.185,-2.65 -3.435,-2.65 ; -4.185,2.65 -3.435,2.65 ; -1.645,-2.65 -0.895,-2.65 ; -1.645,2.65 -0.895,2.65 ; 0.895,-2.65 1.645,-2.65 ; 0.895,2.65 1.645,2.65 ; 3.435,-2.65 4.185,-2.65 ; 3.435,2.65 4.185,2.65 ; 5.975,-2.65 6.725,-2.65 ; 5.975,2.65 6.725,2.65 ; 8.515,-2.65 9.265,-2.65 ; 8.515,2.65 9.265,2.65 ; 11.055,-2.65 11.805,-2.65 ; 11.055,2.65 11.805,2.65 ; 13.595,-2.65 14.345,-2.65 ; 13.595,2.65 14.345,2.65 ; 16.135,-2.65 16.885,-2.65 ; 16.135,2.65 16.885,2.65 ; 18.675,-2.65 19.425,-2.65 ; 18.675,2.65 19.425,2.65 ; 21.215,-2.65 21.965,-2.65 ; 21.215,2.65 21.965,2.65 ; 23.755,-2.65 24.505,-2.65 ; 23.755,2.65 24.505,2.65 ; 26.295,-2.65 27.045,-2.65 ; 26.295,2.65 27.045,2.65 ; 28.835,-2.65 29.585,-2.65 ; 28.835,2.65 29.585,2.65 ; 31.375,-2.65 32.125,-2.65 ; 31.375,2.65 32.125,2.65 ; 33.915,-2.65 34.665,-2.65 ; 33.915,2.65 34.665,2.65 ; 36.455,-2.65 37.205,-2.65 ; 36.455,2.65 37.205,2.65 ; 38.995,-2.65 39.745,-2.65 ; 38.995,2.65 39.745,2.65 ; 41.535,-2.65 42.285,-2.65 ; 41.535,2.65 42.285,2.65 ; 44.075,-2.65 44.825,-2.65 ; 44.075,2.65 44.825,2.65 ; 46.615,-2.65 47.365,-2.65 ; 46.615,2.65 47.365,2.65 ; 49.155,-2.65 49.64,-2.65 49.64,2.65 49.155,2.65
Top Assembly:
  lines w0.254: -48.76,2.54 -48.26,1.833 -47.76,2.54 ; -49.53,-2.54 49.53,-2.54 49.53,2.54 -49.53,2.54 -49.53,-2.54
  text "'.Designator'" at -4.047,-2.68 h1
Top Courtyard:
  lines w0.254: -50.03,-4.07 50.03,-4.07 50.03,4.07 -50.03,4.07 -50.03,-4.07
Top Designator:
  text ".Designator" at -7.618,-0.508 h1.52

## Samtec_HLE-139-02-xxx-DV-BE-LC_2x39_P2.54mm_Horizontal [mm]
pads (158):
  rect 1.27x1.68 smd: 1(-48.26,2.72) 2(-48.26,-2.72) 3(-45.72,2.72) 4(-45.72,-2.72) 5(-43.18,2.72) 6(-43.18,-2.72) 7(-40.64,2.72) 8(-40.64,-2.72) 9(-38.1,2.72) 10(-38.1,-2.72) 11(-35.56,2.72) 12(-35.56,-2.72) 13(-33.02,2.72) 14(-33.02,-2.72) 15(-30.48,2.72) 16(-30.48,-2.72) 17(-27.94,2.72) 18(-27.94,-2.72) 19(-25.4,2.72) 20(-25.4,-2.72) 21(-22.86,2.72) 22(-22.86,-2.72) 23(-20.32,2.72) 24(-20.32,-2.72) 25(-17.78,2.72) 26(-17.78,-2.72) 27(-15.24,2.72) 28(-15.24,-2.72) 29(-12.7,2.72) 30(-12.7,-2.72) 31(-10.16,2.72) 32(-10.16,-2.72) 33(-7.62,2.72) 34(-7.62,-2.72) 35(-5.08,2.72) 36(-5.08,-2.72) 37(-2.54,2.72) 38(-2.54,-2.72) 39(0,2.72) 40(0,-2.72) 41(2.54,2.72) 42(2.54,-2.72) 43(5.08,2.72) 44(5.08,-2.72) 45(7.62,2.72) 46(7.62,-2.72) 47(10.16,2.72) 48(10.16,-2.72) 49(12.7,2.72) 50(12.7,-2.72) 51(15.24,2.72) 52(15.24,-2.72) 53(17.78,2.72) 54(17.78,-2.72) 55(20.32,2.72) 56(20.32,-2.72) 57(22.86,2.72) 58(22.86,-2.72) 59(25.4,2.72) 60(25.4,-2.72) 61(27.94,2.72) 62(27.94,-2.72) 63(30.48,2.72) 64(30.48,-2.72) 65(33.02,2.72) 66(33.02,-2.72) 67(35.56,2.72) 68(35.56,-2.72) 69(38.1,2.72) 70(38.1,-2.72) 71(40.64,2.72) 72(40.64,-2.72) 73(43.18,2.72) 74(43.18,-2.72) 75(45.72,2.72) 76(45.72,-2.72) 77(48.26,2.72) 78(48.26,-2.72)
  round 0.97 hole 0.97: Un1(-48.26,1.27) Un2(-48.26,-1.27) Un4(-45.72,1.27) Un5(-45.72,-1.27) Un6(-43.18,1.27) Un7(-43.18,-1.27) Un8(-40.64,1.27) Un9(-40.64,-1.27) Un10(-38.1,1.27) Un11(-38.1,-1.27) Un12(-35.56,1.27) Un13(-35.56,-1.27) Un14(-33.02,1.27) Un15(-33.02,-1.27) Un16(-30.48,1.27) Un17(-30.48,-1.27) Un18(-27.94,1.27) Un19(-27.94,-1.27) Un20(-25.4,1.27) Un21(-25.4,-1.27) Un22(-22.86,1.27) Un23(-22.86,-1.27) Un24(-20.32,1.27) Un25(-20.32,-1.27) Un26(-17.78,1.27) Un27(-17.78,-1.27) Un28(-15.24,1.27) Un29(-15.24,-1.27) Un30(-12.7,1.27) Un31(-12.7,-1.27) Un32(-10.16,1.27) Un33(-10.16,-1.27) Un34(-7.62,1.27) Un35(-7.62,-1.27) Un36(-5.08,1.27) Un37(-5.08,-1.27) Un38(-2.54,1.27) Un39(-2.54,-1.27) Un40(0,1.27) Un41(0,-1.27) Un42(2.54,1.27) Un43(2.54,-1.27) Un44(5.08,1.27) Un45(5.08,-1.27) Un46(7.62,1.27) Un47(7.62,-1.27) Un48(10.16,1.27) Un49(10.16,-1.27) Un50(12.7,1.27) Un51(12.7,-1.27) Un52(15.24,1.27) Un53(15.24,-1.27) Un54(17.78,1.27) Un55(17.78,-1.27) Un56(20.32,1.27) Un57(20.32,-1.27) Un58(22.86,1.27) Un59(22.86,-1.27) Un60(25.4,1.27) Un61(25.4,-1.27) Un62(27.94,1.27) Un63(27.94,-1.27) Un64(30.48,1.27) Un65(30.48,-1.27) Un66(33.02,1.27) Un67(33.02,-1.27) Un68(35.56,1.27) Un69(35.56,-1.27) Un70(38.1,1.27) Un71(38.1,-1.27) Un72(40.64,1.27) Un73(40.64,-1.27) Un74(43.18,1.27) Un75(43.18,-1.27) Un76(45.72,1.27) Un77(45.72,-1.27) Un79(48.26,1.27) Un80(48.26,-1.27)
  round 1.19 hole 1.19: Un3(-46.99,0) Un78(46.99,0)
F.SilkS:
  lines w0.254: -49.155,-2.65 -49.64,-2.65 -49.64,2.65 -49.155,2.65 -49.155,3.56 ; -47.365,-2.65 -46.615,-2.65 ; -47.365,2.65 -46.615,2.65 ; -44.825,-2.65 -44.075,-2.65 ; -44.825,2.65 -44.075,2.65 ; -42.285,-2.65 -41.535,-2.65 ; -42.285,2.65 -41.535,2.65 ; -39.745,-2.65 -38.995,-2.65 ; -39.745,2.65 -38.995,2.65 ; -37.205,-2.65 -36.455,-2.65 ; -37.205,2.65 -36.455,2.65 ; -34.665,-2.65 -33.915,-2.65 ; -34.665,2.65 -33.915,2.65 ; -32.125,-2.65 -31.375,-2.65 ; -32.125,2.65 -31.375,2.65 ; -29.585,-2.65 -28.835,-2.65 ; -29.585,2.65 -28.835,2.65 ; -27.045,-2.65 -26.295,-2.65 ; -27.045,2.65 -26.295,2.65 ; -24.505,-2.65 -23.755,-2.65 ; -24.505,2.65 -23.755,2.65 ; -21.965,-2.65 -21.215,-2.65 ; -21.965,2.65 -21.215,2.65 ; -19.425,-2.65 -18.675,-2.65 ; -19.425,2.65 -18.675,2.65 ; -16.885,-2.65 -16.135,-2.65 ; -16.885,2.65 -16.135,2.65 ; -14.345,-2.65 -13.595,-2.65 ; -14.345,2.65 -13.595,2.65 ; -11.805,-2.65 -11.055,-2.65 ; -11.805,2.65 -11.055,2.65 ; -9.265,-2.65 -8.515,-2.65 ; -9.265,2.65 -8.515,2.65 ; -6.725,-2.65 -5.975,-2.65 ; -6.725,2.65 -5.975,2.65 ; -4.185,-2.65 -3.435,-2.65 ; -4.185,2.65 -3.435,2.65 ; -1.645,-2.65 -0.895,-2.65 ; -1.645,2.65 -0.895,2.65 ; 0.895,-2.65 1.645,-2.65 ; 0.895,2.65 1.645,2.65 ; 3.435,-2.65 4.185,-2.65 ; 3.435,2.65 4.185,2.65 ; 5.975,-2.65 6.725,-2.65 ; 5.975,2.65 6.725,2.65 ; 8.515,-2.65 9.265,-2.65 ; 8.515,2.65 9.265,2.65 ; 11.055,-2.65 11.805,-2.65 ; 11.055,2.65 11.805,2.65 ; 13.595,-2.65 14.345,-2.65 ; 13.595,2.65 14.345,2.65 ; 16.135,-2.65 16.885,-2.65 ; 16.135,2.65 16.885,2.65 ; 18.675,-2.65 19.425,-2.65 ; 18.675,2.65 19.425,2.65 ; 21.215,-2.65 21.965,-2.65 ; 21.215,2.65 21.965,2.65 ; 23.755,-2.65 24.505,-2.65 ; 23.755,2.65 24.505,2.65 ; 26.295,-2.65 27.045,-2.65 ; 26.295,2.65 27.045,2.65 ; 28.835,-2.65 29.585,-2.65 ; 28.835,2.65 29.585,2.65 ; 31.375,-2.65 32.125,-2.65 ; 31.375,2.65 32.125,2.65 ; 33.915,-2.65 34.665,-2.65 ; 33.915,2.65 34.665,2.65 ; 36.455,-2.65 37.205,-2.65 ; 36.455,2.65 37.205,2.65 ; 38.995,-2.65 39.745,-2.65 ; 38.995,2.65 39.745,2.65 ; 41.535,-2.65 42.285,-2.65 ; 41.535,2.65 42.285,2.65 ; 44.075,-2.65 44.825,-2.65 ; 44.075,2.65 44.825,2.65 ; 46.615,-2.65 47.365,-2.65 ; 46.615,2.65 47.365,2.65 ; 49.155,-2.65 49.64,-2.65 49.64,2.65 49.155,2.65
Top Assembly:
  lines w0.254: -48.76,2.54 -48.26,1.833 -47.76,2.54 ; -49.53,-2.54 49.53,-2.54 49.53,2.54 -49.53,2.54 -49.53,-2.54
  text "'.Designator'" at -4.047,-2.68 h1
Top Courtyard:
  lines w0.254: -50.03,-4.07 50.03,-4.07 50.03,4.07 -50.03,4.07 -50.03,-4.07
Top Designator:
  text ".Designator" at -7.618,-0.508 h1.52

## Samtec_HLE-139-02-xxx-DV-BE_2x39_P2.54mm_Horizontal [mm]
pads (156):
  rect 1.27x1.68 smd: 1(-48.26,2.72) 2(-48.26,-2.72) 3(-45.72,2.72) 4(-45.72,-2.72) 5(-43.18,2.72) 6(-43.18,-2.72) 7(-40.64,2.72) 8(-40.64,-2.72) 9(-38.1,2.72) 10(-38.1,-2.72) 11(-35.56,2.72) 12(-35.56,-2.72) 13(-33.02,2.72) 14(-33.02,-2.72) 15(-30.48,2.72) 16(-30.48,-2.72) 17(-27.94,2.72) 18(-27.94,-2.72) 19(-25.4,2.72) 20(-25.4,-2.72) 21(-22.86,2.72) 22(-22.86,-2.72) 23(-20.32,2.72) 24(-20.32,-2.72) 25(-17.78,2.72) 26(-17.78,-2.72) 27(-15.24,2.72) 28(-15.24,-2.72) 29(-12.7,2.72) 30(-12.7,-2.72) 31(-10.16,2.72) 32(-10.16,-2.72) 33(-7.62,2.72) 34(-7.62,-2.72) 35(-5.08,2.72) 36(-5.08,-2.72) 37(-2.54,2.72) 38(-2.54,-2.72) 39(0,2.72) 40(0,-2.72) 41(2.54,2.72) 42(2.54,-2.72) 43(5.08,2.72) 44(5.08,-2.72) 45(7.62,2.72) 46(7.62,-2.72) 47(10.16,2.72) 48(10.16,-2.72) 49(12.7,2.72) 50(12.7,-2.72) 51(15.24,2.72) 52(15.24,-2.72) 53(17.78,2.72) 54(17.78,-2.72) 55(20.32,2.72) 56(20.32,-2.72) 57(22.86,2.72) 58(22.86,-2.72) 59(25.4,2.72) 60(25.4,-2.72) 61(27.94,2.72) 62(27.94,-2.72) 63(30.48,2.72) 64(30.48,-2.72) 65(33.02,2.72) 66(33.02,-2.72) 67(35.56,2.72) 68(35.56,-2.72) 69(38.1,2.72) 70(38.1,-2.72) 71(40.64,2.72) 72(40.64,-2.72) 73(43.18,2.72) 74(43.18,-2.72) 75(45.72,2.72) 76(45.72,-2.72) 77(48.26,2.72) 78(48.26,-2.72)
  round 0.97 hole 0.97: Un1(-48.26,1.27) Un2(-48.26,-1.27) Un3(-45.72,1.27) Un4(-45.72,-1.27) Un5(-43.18,1.27) Un6(-43.18,-1.27) Un7(-40.64,1.27) Un8(-40.64,-1.27) Un9(-38.1,1.27) Un10(-38.1,-1.27) Un11(-35.56,1.27) Un12(-35.56,-1.27) Un13(-33.02,1.27) Un14(-33.02,-1.27) Un15(-30.48,1.27) Un16(-30.48,-1.27) Un17(-27.94,1.27) Un18(-27.94,-1.27) Un19(-25.4,1.27) Un20(-25.4,-1.27) Un21(-22.86,1.27) Un22(-22.86,-1.27) Un23(-20.32,1.27) Un24(-20.32,-1.27) Un25(-17.78,1.27) Un26(-17.78,-1.27) Un27(-15.24,1.27) Un28(-15.24,-1.27) Un29(-12.7,1.27) Un30(-12.7,-1.27) Un31(-10.16,1.27) Un32(-10.16,-1.27) Un33(-7.62,1.27) Un34(-7.62,-1.27) Un35(-5.08,1.27) Un36(-5.08,-1.27) Un37(-2.54,1.27) Un38(-2.54,-1.27) Un39(0,1.27) Un40(0,-1.27) Un41(2.54,1.27) Un42(2.54,-1.27) Un43(5.08,1.27) Un44(5.08,-1.27) Un45(7.62,1.27) Un46(7.62,-1.27) Un47(10.16,1.27) Un48(10.16,-1.27) Un49(12.7,1.27) Un50(12.7,-1.27) Un51(15.24,1.27) Un52(15.24,-1.27) Un53(17.78,1.27) Un54(17.78,-1.27) Un55(20.32,1.27) Un56(20.32,-1.27) Un57(22.86,1.27) Un58(22.86,-1.27) Un59(25.4,1.27) Un60(25.4,-1.27) Un61(27.94,1.27) Un62(27.94,-1.27) Un63(30.48,1.27) Un64(30.48,-1.27) Un65(33.02,1.27) Un66(33.02,-1.27) Un67(35.56,1.27) Un68(35.56,-1.27) Un69(38.1,1.27) Un70(38.1,-1.27) Un71(40.64,1.27) Un72(40.64,-1.27) Un73(43.18,1.27) Un74(43.18,-1.27) Un75(45.72,1.27) Un76(45.72,-1.27) Un77(48.26,1.27) Un78(48.26,-1.27)
F.SilkS:
  lines w0.254: -49.155,-2.65 -49.64,-2.65 -49.64,2.65 -49.155,2.65 -49.155,3.56 ; -47.365,-2.65 -46.615,-2.65 ; -47.365,2.65 -46.615,2.65 ; -44.825,-2.65 -44.075,-2.65 ; -44.825,2.65 -44.075,2.65 ; -42.285,-2.65 -41.535,-2.65 ; -42.285,2.65 -41.535,2.65 ; -39.745,-2.65 -38.995,-2.65 ; -39.745,2.65 -38.995,2.65 ; -37.205,-2.65 -36.455,-2.65 ; -37.205,2.65 -36.455,2.65 ; -34.665,-2.65 -33.915,-2.65 ; -34.665,2.65 -33.915,2.65 ; -32.125,-2.65 -31.375,-2.65 ; -32.125,2.65 -31.375,2.65 ; -29.585,-2.65 -28.835,-2.65 ; -29.585,2.65 -28.835,2.65 ; -27.045,-2.65 -26.295,-2.65 ; -27.045,2.65 -26.295,2.65 ; -24.505,-2.65 -23.755,-2.65 ; -24.505,2.65 -23.755,2.65 ; -21.965,-2.65 -21.215,-2.65 ; -21.965,2.65 -21.215,2.65 ; -19.425,-2.65 -18.675,-2.65 ; -19.425,2.65 -18.675,2.65 ; -16.885,-2.65 -16.135,-2.65 ; -16.885,2.65 -16.135,2.65 ; -14.345,-2.65 -13.595,-2.65 ; -14.345,2.65 -13.595,2.65 ; -11.805,-2.65 -11.055,-2.65 ; -11.805,2.65 -11.055,2.65 ; -9.265,-2.65 -8.515,-2.65 ; -9.265,2.65 -8.515,2.65 ; -6.725,-2.65 -5.975,-2.65 ; -6.725,2.65 -5.975,2.65 ; -4.185,-2.65 -3.435,-2.65 ; -4.185,2.65 -3.435,2.65 ; -1.645,-2.65 -0.895,-2.65 ; -1.645,2.65 -0.895,2.65 ; 0.895,-2.65 1.645,-2.65 ; 0.895,2.65 1.645,2.65 ; 3.435,-2.65 4.185,-2.65 ; 3.435,2.65 4.185,2.65 ; 5.975,-2.65 6.725,-2.65 ; 5.975,2.65 6.725,2.65 ; 8.515,-2.65 9.265,-2.65 ; 8.515,2.65 9.265,2.65 ; 11.055,-2.65 11.805,-2.65 ; 11.055,2.65 11.805,2.65 ; 13.595,-2.65 14.345,-2.65 ; 13.595,2.65 14.345,2.65 ; 16.135,-2.65 16.885,-2.65 ; 16.135,2.65 16.885,2.65 ; 18.675,-2.65 19.425,-2.65 ; 18.675,2.65 19.425,2.65 ; 21.215,-2.65 21.965,-2.65 ; 21.215,2.65 21.965,2.65 ; 23.755,-2.65 24.505,-2.65 ; 23.755,2.65 24.505,2.65 ; 26.295,-2.65 27.045,-2.65 ; 26.295,2.65 27.045,2.65 ; 28.835,-2.65 29.585,-2.65 ; 28.835,2.65 29.585,2.65 ; 31.375,-2.65 32.125,-2.65 ; 31.375,2.65 32.125,2.65 ; 33.915,-2.65 34.665,-2.65 ; 33.915,2.65 34.665,2.65 ; 36.455,-2.65 37.205,-2.65 ; 36.455,2.65 37.205,2.65 ; 38.995,-2.65 39.745,-2.65 ; 38.995,2.65 39.745,2.65 ; 41.535,-2.65 42.285,-2.65 ; 41.535,2.65 42.285,2.65 ; 44.075,-2.65 44.825,-2.65 ; 44.075,2.65 44.825,2.65 ; 46.615,-2.65 47.365,-2.65 ; 46.615,2.65 47.365,2.65 ; 49.155,-2.65 49.64,-2.65 49.64,2.65 49.155,2.65
Top Assembly:
  lines w0.254: -48.76,2.54 -48.26,1.833 -47.76,2.54 ; -49.53,-2.54 49.53,-2.54 49.53,2.54 -49.53,2.54 -49.53,-2.54
  text "'.Designator'" at -4.047,-2.68 h1
Top Courtyard:
  lines w0.254: -50.03,-4.07 50.03,-4.07 50.03,4.07 -50.03,4.07 -50.03,-4.07
Top Designator:
  text ".Designator" at -7.618,-0.508 h1.52

## Samtec_HLE-139-02-xxx-DV-LC_2x39_P2.54mm_Horizontal [mm]
pads (80):
  rect 1.27x2.29 smd: 1(-48.26,2.525) 2(-48.26,-2.525) 3(-45.72,2.525) 4(-45.72,-2.525) 5(-43.18,2.525) 6(-43.18,-2.525) 7(-40.64,2.525) 8(-40.64,-2.525) 9(-38.1,2.525) 10(-38.1,-2.525) 11(-35.56,2.525) 12(-35.56,-2.525) 13(-33.02,2.525) 14(-33.02,-2.525) 15(-30.48,2.525) 16(-30.48,-2.525) 17(-27.94,2.525) 18(-27.94,-2.525) 19(-25.4,2.525) 20(-25.4,-2.525) 21(-22.86,2.525) 22(-22.86,-2.525) 23(-20.32,2.525) 24(-20.32,-2.525) 25(-17.78,2.525) 26(-17.78,-2.525) 27(-15.24,2.525) 28(-15.24,-2.525) 29(-12.7,2.525) 30(-12.7,-2.525) 31(-10.16,2.525) 32(-10.16,-2.525) 33(-7.62,2.525) 34(-7.62,-2.525) 35(-5.08,2.525) 36(-5.08,-2.525) 37(-2.54,2.525) 38(-2.54,-2.525) 39(0,2.525) 40(0,-2.525) 41(2.54,2.525) 42(2.54,-2.525) 43(5.08,2.525) 44(5.08,-2.525) 45(7.62,2.525) 46(7.62,-2.525) 47(10.16,2.525) 48(10.16,-2.525) 49(12.7,2.525) 50(12.7,-2.525) 51(15.24,2.525) 52(15.24,-2.525) 53(17.78,2.525) 54(17.78,-2.525) 55(20.32,2.525) 56(20.32,-2.525) 57(22.86,2.525) 58(22.86,-2.525) 59(25.4,2.525) 60(25.4,-2.525) 61(27.94,2.525) 62(27.94,-2.525) 63(30.48,2.525) 64(30.48,-2.525) 65(33.02,2.525) 66(33.02,-2.525) 67(35.56,2.525) 68(35.56,-2.525) 69(38.1,2.525) 70(38.1,-2.525) 71(40.64,2.525) 72(40.64,-2.525) 73(43.18,2.525) 74(43.18,-2.525) 75(45.72,2.525) 76(45.72,-2.525) 77(48.26,2.525) 78(48.26,-2.525)
  round 1.19 hole 1.19: Un1(-46.99,0) Un2(46.99,0)
F.SilkS:
  lines w0.254: -49.155,-2.65 -49.64,-2.65 -49.64,2.65 -49.155,2.65 -49.155,3.67 ; -47.365,-2.65 -46.615,-2.65 ; -47.365,2.65 -46.615,2.65 ; -44.825,-2.65 -44.075,-2.65 ; -44.825,2.65 -44.075,2.65 ; -42.285,-2.65 -41.535,-2.65 ; -42.285,2.65 -41.535,2.65 ; -39.745,-2.65 -38.995,-2.65 ; -39.745,2.65 -38.995,2.65 ; -37.205,-2.65 -36.455,-2.65 ; -37.205,2.65 -36.455,2.65 ; -34.665,-2.65 -33.915,-2.65 ; -34.665,2.65 -33.915,2.65 ; -32.125,-2.65 -31.375,-2.65 ; -32.125,2.65 -31.375,2.65 ; -29.585,-2.65 -28.835,-2.65 ; -29.585,2.65 -28.835,2.65 ; -27.045,-2.65 -26.295,-2.65 ; -27.045,2.65 -26.295,2.65 ; -24.505,-2.65 -23.755,-2.65 ; -24.505,2.65 -23.755,2.65 ; -21.965,-2.65 -21.215,-2.65 ; -21.965,2.65 -21.215,2.65 ; -19.425,-2.65 -18.675,-2.65 ; -19.425,2.65 -18.675,2.65 ; -16.885,-2.65 -16.135,-2.65 ; -16.885,2.65 -16.135,2.65 ; -14.345,-2.65 -13.595,-2.65 ; -14.345,2.65 -13.595,2.65 ; -11.805,-2.65 -11.055,-2.65 ; -11.805,2.65 -11.055,2.65 ; -9.265,-2.65 -8.515,-2.65 ; -9.265,2.65 -8.515,2.65 ; -6.725,-2.65 -5.975,-2.65 ; -6.725,2.65 -5.975,2.65 ; -4.185,-2.65 -3.435,-2.65 ; -4.185,2.65 -3.435,2.65 ; -1.645,-2.65 -0.895,-2.65 ; -1.645,2.65 -0.895,2.65 ; 0.895,-2.65 1.645,-2.65 ; 0.895,2.65 1.645,2.65 ; 3.435,-2.65 4.185,-2.65 ; 3.435,2.65 4.185,2.65 ; 5.975,-2.65 6.725,-2.65 ; 5.975,2.65 6.725,2.65 ; 8.515,-2.65 9.265,-2.65 ; 8.515,2.65 9.265,2.65 ; 11.055,-2.65 11.805,-2.65 ; 11.055,2.65 11.805,2.65 ; 13.595,-2.65 14.345,-2.65 ; 13.595,2.65 14.345,2.65 ; 16.135,-2.65 16.885,-2.65 ; 16.135,2.65 16.885,2.65 ; 18.675,-2.65 19.425,-2.65 ; 18.675,2.65 19.425,2.65 ; 21.215,-2.65 21.965,-2.65 ; 21.215,2.65 21.965,2.65 ; 23.755,-2.65 24.505,-2.65 ; 23.755,2.65 24.505,2.65 ; 26.295,-2.65 27.045,-2.65 ; 26.295,2.65 27.045,2.65 ; 28.835,-2.65 29.585,-2.65 ; 28.835,2.65 29.585,2.65 ; 31.375,-2.65 32.125,-2.65 ; 31.375,2.65 32.125,2.65 ; 33.915,-2.65 34.665,-2.65 ; 33.915,2.65 34.665,2.65 ; 36.455,-2.65 37.205,-2.65 ; 36.455,2.65 37.205,2.65 ; 38.995,-2.65 39.745,-2.65 ; 38.995,2.65 39.745,2.65 ; 41.535,-2.65 42.285,-2.65 ; 41.535,2.65 42.285,2.65 ; 44.075,-2.65 44.825,-2.65 ; 44.075,2.65 44.825,2.65 ; 46.615,-2.65 47.365,-2.65 ; 46.615,2.65 47.365,2.65 ; 49.155,-2.65 49.64,-2.65 49.64,2.65 49.155,2.65
Top Assembly:
  lines w0.254: -48.76,2.54 -48.26,1.833 -47.76,2.54 ; -49.53,-2.54 49.53,-2.54 49.53,2.54 -49.53,2.54 -49.53,-2.54
  text "'.Designator'" at -4.047,-2.68 h1
Top Courtyard:
  lines w0.254: -50.03,-4.17 50.03,-4.17 50.03,4.17 -50.03,4.17 -50.03,-4.17
Top Designator:
  text ".Designator" at -7.618,-0.508 h1.52

## Samtec_HLE-139-02-xxx-DV_2x39_P2.54mm_Horizontal [mm]
pads (78):
  rect 1.27x2.29 smd: 1(-48.26,2.525) 2(-48.26,-2.525) 3(-45.72,2.525) 4(-45.72,-2.525) 5(-43.18,2.525) 6(-43.18,-2.525) 7(-40.64,2.525) 8(-40.64,-2.525) 9(-38.1,2.525) 10(-38.1,-2.525) 11(-35.56,2.525) 12(-35.56,-2.525) 13(-33.02,2.525) 14(-33.02,-2.525) 15(-30.48,2.525) 16(-30.48,-2.525) 17(-27.94,2.525) 18(-27.94,-2.525) 19(-25.4,2.525) 20(-25.4,-2.525) 21(-22.86,2.525) 22(-22.86,-2.525) 23(-20.32,2.525) 24(-20.32,-2.525) 25(-17.78,2.525) 26(-17.78,-2.525) 27(-15.24,2.525) 28(-15.24,-2.525) 29(-12.7,2.525) 30(-12.7,-2.525) 31(-10.16,2.525) 32(-10.16,-2.525) 33(-7.62,2.525) 34(-7.62,-2.525) 35(-5.08,2.525) 36(-5.08,-2.525) 37(-2.54,2.525) 38(-2.54,-2.525) 39(0,2.525) 40(0,-2.525) 41(2.54,2.525) 42(2.54,-2.525) 43(5.08,2.525) 44(5.08,-2.525) 45(7.62,2.525) 46(7.62,-2.525) 47(10.16,2.525) 48(10.16,-2.525) 49(12.7,2.525) 50(12.7,-2.525) 51(15.24,2.525) 52(15.24,-2.525) 53(17.78,2.525) 54(17.78,-2.525) 55(20.32,2.525) 56(20.32,-2.525) 57(22.86,2.525) 58(22.86,-2.525) 59(25.4,2.525) 60(25.4,-2.525) 61(27.94,2.525) 62(27.94,-2.525) 63(30.48,2.525) 64(30.48,-2.525) 65(33.02,2.525) 66(33.02,-2.525) 67(35.56,2.525) 68(35.56,-2.525) 69(38.1,2.525) 70(38.1,-2.525) 71(40.64,2.525) 72(40.64,-2.525) 73(43.18,2.525) 74(43.18,-2.525) 75(45.72,2.525) 76(45.72,-2.525) 77(48.26,2.525) 78(48.26,-2.525)
F.SilkS:
  lines w0.254: -49.155,-2.65 -49.64,-2.65 -49.64,2.65 -49.155,2.65 -49.155,3.67 ; -47.365,-2.65 -46.615,-2.65 ; -47.365,2.65 -46.615,2.65 ; -44.825,-2.65 -44.075,-2.65 ; -44.825,2.65 -44.075,2.65 ; -42.285,-2.65 -41.535,-2.65 ; -42.285,2.65 -41.535,2.65 ; -39.745,-2.65 -38.995,-2.65 ; -39.745,2.65 -38.995,2.65 ; -37.205,-2.65 -36.455,-2.65 ; -37.205,2.65 -36.455,2.65 ; -34.665,-2.65 -33.915,-2.65 ; -34.665,2.65 -33.915,2.65 ; -32.125,-2.65 -31.375,-2.65 ; -32.125,2.65 -31.375,2.65 ; -29.585,-2.65 -28.835,-2.65 ; -29.585,2.65 -28.835,2.65 ; -27.045,-2.65 -26.295,-2.65 ; -27.045,2.65 -26.295,2.65 ; -24.505,-2.65 -23.755,-2.65 ; -24.505,2.65 -23.755,2.65 ; -21.965,-2.65 -21.215,-2.65 ; -21.965,2.65 -21.215,2.65 ; -19.425,-2.65 -18.675,-2.65 ; -19.425,2.65 -18.675,2.65 ; -16.885,-2.65 -16.135,-2.65 ; -16.885,2.65 -16.135,2.65 ; -14.345,-2.65 -13.595,-2.65 ; -14.345,2.65 -13.595,2.65 ; -11.805,-2.65 -11.055,-2.65 ; -11.805,2.65 -11.055,2.65 ; -9.265,-2.65 -8.515,-2.65 ; -9.265,2.65 -8.515,2.65 ; -6.725,-2.65 -5.975,-2.65 ; -6.725,2.65 -5.975,2.65 ; -4.185,-2.65 -3.435,-2.65 ; -4.185,2.65 -3.435,2.65 ; -1.645,-2.65 -0.895,-2.65 ; -1.645,2.65 -0.895,2.65 ; 0.895,-2.65 1.645,-2.65 ; 0.895,2.65 1.645,2.65 ; 3.435,-2.65 4.185,-2.65 ; 3.435,2.65 4.185,2.65 ; 5.975,-2.65 6.725,-2.65 ; 5.975,2.65 6.725,2.65 ; 8.515,-2.65 9.265,-2.65 ; 8.515,2.65 9.265,2.65 ; 11.055,-2.65 11.805,-2.65 ; 11.055,2.65 11.805,2.65 ; 13.595,-2.65 14.345,-2.65 ; 13.595,2.65 14.345,2.65 ; 16.135,-2.65 16.885,-2.65 ; 16.135,2.65 16.885,2.65 ; 18.675,-2.65 19.425,-2.65 ; 18.675,2.65 19.425,2.65 ; 21.215,-2.65 21.965,-2.65 ; 21.215,2.65 21.965,2.65 ; 23.755,-2.65 24.505,-2.65 ; 23.755,2.65 24.505,2.65 ; 26.295,-2.65 27.045,-2.65 ; 26.295,2.65 27.045,2.65 ; 28.835,-2.65 29.585,-2.65 ; 28.835,2.65 29.585,2.65 ; 31.375,-2.65 32.125,-2.65 ; 31.375,2.65 32.125,2.65 ; 33.915,-2.65 34.665,-2.65 ; 33.915,2.65 34.665,2.65 ; 36.455,-2.65 37.205,-2.65 ; 36.455,2.65 37.205,2.65 ; 38.995,-2.65 39.745,-2.65 ; 38.995,2.65 39.745,2.65 ; 41.535,-2.65 42.285,-2.65 ; 41.535,2.65 42.285,2.65 ; 44.075,-2.65 44.825,-2.65 ; 44.075,2.65 44.825,2.65 ; 46.615,-2.65 47.365,-2.65 ; 46.615,2.65 47.365,2.65 ; 49.155,-2.65 49.64,-2.65 49.64,2.65 49.155,2.65
Top Assembly:
  lines w0.254: -48.76,2.54 -48.26,1.833 -47.76,2.54 ; -49.53,-2.54 49.53,-2.54 49.53,2.54 -49.53,2.54 -49.53,-2.54
  text "'.Designator'" at -4.047,-2.68 h1
Top Courtyard:
  lines w0.254: -50.03,-4.17 50.03,-4.17 50.03,4.17 -50.03,4.17 -50.03,-4.17
Top Designator:
  text ".Designator" at -7.618,-0.508 h1.52

## Samtec_HLE-140-02-xxx-DV-A_2x40_P2.54mm_Horizontal [mm]
pads (82):
  rect 1.27x2.29 smd: 1(-49.53,2.525) 2(-49.53,-2.525) 3(-46.99,2.525) 4(-46.99,-2.525) 5(-44.45,2.525) 6(-44.45,-2.525) 7(-41.91,2.525) 8(-41.91,-2.525) 9(-39.37,2.525) 10(-39.37,-2.525) 11(-36.83,2.525) 12(-36.83,-2.525) 13(-34.29,2.525) 14(-34.29,-2.525) 15(-31.75,2.525) 16(-31.75,-2.525) 17(-29.21,2.525) 18(-29.21,-2.525) 19(-26.67,2.525) 20(-26.67,-2.525) 21(-24.13,2.525) 22(-24.13,-2.525) 23(-21.59,2.525) 24(-21.59,-2.525) 25(-19.05,2.525) 26(-19.05,-2.525) 27(-16.51,2.525) 28(-16.51,-2.525) 29(-13.97,2.525) 30(-13.97,-2.525) 31(-11.43,2.525) 32(-11.43,-2.525) 33(-8.89,2.525) 34(-8.89,-2.525) 35(-6.35,2.525) 36(-6.35,-2.525) 37(-3.81,2.525) 38(-3.81,-2.525) 39(-1.27,2.525) 40(-1.27,-2.525) 41(1.27,2.525) 42(1.27,-2.525) 43(3.81,2.525) 44(3.81,-2.525) 45(6.35,2.525) 46(6.35,-2.525) 47(8.89,2.525) 48(8.89,-2.525) 49(11.43,2.525) 50(11.43,-2.525) 51(13.97,2.525) 52(13.97,-2.525) 53(16.51,2.525) 54(16.51,-2.525) 55(19.05,2.525) 56(19.05,-2.525) 57(21.59,2.525) 58(21.59,-2.525) 59(24.13,2.525) 60(24.13,-2.525) 61(26.67,2.525) 62(26.67,-2.525) 63(29.21,2.525) 64(29.21,-2.525) 65(31.75,2.525) 66(31.75,-2.525) 67(34.29,2.525) 68(34.29,-2.525) 69(36.83,2.525) 70(36.83,-2.525) 71(39.37,2.525) 72(39.37,-2.525) 73(41.91,2.525) 74(41.91,-2.525) 75(44.45,2.525) 76(44.45,-2.525) 77(46.99,2.525) 78(46.99,-2.525) 79(49.53,2.525) 80(49.53,-2.525)
  round 1.78 hole 1.78: Un1(-48.26,0) Un2(48.26,0)
F.SilkS:
  lines w0.254: -50.425,-2.65 -50.91,-2.65 -50.91,2.65 -50.425,2.65 -50.425,3.67 ; -48.635,-2.65 -47.885,-2.65 ; -48.635,2.65 -47.885,2.65 ; -46.095,-2.65 -45.345,-2.65 ; -46.095,2.65 -45.345,2.65 ; -43.555,-2.65 -42.805,-2.65 ; -43.555,2.65 -42.805,2.65 ; -41.015,-2.65 -40.265,-2.65 ; -41.015,2.65 -40.265,2.65 ; -38.475,-2.65 -37.725,-2.65 ; -38.475,2.65 -37.725,2.65 ; -35.935,-2.65 -35.185,-2.65 ; -35.935,2.65 -35.185,2.65 ; -33.395,-2.65 -32.645,-2.65 ; -33.395,2.65 -32.645,2.65 ; -30.855,-2.65 -30.105,-2.65 ; -30.855,2.65 -30.105,2.65 ; -28.315,-2.65 -27.565,-2.65 ; -28.315,2.65 -27.565,2.65 ; -25.775,-2.65 -25.025,-2.65 ; -25.775,2.65 -25.025,2.65 ; -23.235,-2.65 -22.485,-2.65 ; -23.235,2.65 -22.485,2.65 ; -20.695,-2.65 -19.945,-2.65 ; -20.695,2.65 -19.945,2.65 ; -18.155,-2.65 -17.405,-2.65 ; -18.155,2.65 -17.405,2.65 ; -15.615,-2.65 -14.865,-2.65 ; -15.615,2.65 -14.865,2.65 ; -13.075,-2.65 -12.325,-2.65 ; -13.075,2.65 -12.325,2.65 ; -10.535,-2.65 -9.785,-2.65 ; -10.535,2.65 -9.785,2.65 ; -7.995,-2.65 -7.245,-2.65 ; -7.995,2.65 -7.245,2.65 ; -5.455,-2.65 -4.705,-2.65 ; -5.455,2.65 -4.705,2.65 ; -2.915,-2.65 -2.165,-2.65 ; -2.915,2.65 -2.165,2.65 ; -0.375,-2.65 0.375,-2.65 ; -0.375,2.65 0.375,2.65 ; 2.165,-2.65 2.915,-2.65 ; 2.165,2.65 2.915,2.65 ; 4.705,-2.65 5.455,-2.65 ; 4.705,2.65 5.455,2.65 ; 7.245,-2.65 7.995,-2.65 ; 7.245,2.65 7.995,2.65 ; 9.785,-2.65 10.535,-2.65 ; 9.785,2.65 10.535,2.65 ; 12.325,-2.65 13.075,-2.65 ; 12.325,2.65 13.075,2.65 ; 14.865,-2.65 15.615,-2.65 ; 14.865,2.65 15.615,2.65 ; 17.405,-2.65 18.155,-2.65 ; 17.405,2.65 18.155,2.65 ; 19.945,-2.65 20.695,-2.65 ; 19.945,2.65 20.695,2.65 ; 22.485,-2.65 23.235,-2.65 ; 22.485,2.65 23.235,2.65 ; 25.025,-2.65 25.775,-2.65 ; 25.025,2.65 25.775,2.65 ; 27.565,-2.65 28.315,-2.65 ; 27.565,2.65 28.315,2.65 ; 30.105,-2.65 30.855,-2.65 ; 30.105,2.65 30.855,2.65 ; 32.645,-2.65 33.395,-2.65 ; 32.645,2.65 33.395,2.65 ; 35.185,-2.65 35.935,-2.65 ; 35.185,2.65 35.935,2.65 ; 37.725,-2.65 38.475,-2.65 ; 37.725,2.65 38.475,2.65 ; 40.265,-2.65 41.015,-2.65 ; 40.265,2.65 41.015,2.65 ; 42.805,-2.65 43.555,-2.65 ; 42.805,2.65 43.555,2.65 ; 45.345,-2.65 46.095,-2.65 ; 45.345,2.65 46.095,2.65 ; 47.885,-2.65 48.635,-2.65 ; 47.885,2.65 48.635,2.65 ; 50.425,-2.65 50.91,-2.65 50.91,2.65 50.425,2.65
Top Assembly:
  lines w0.254: -50.03,2.54 -49.53,1.833 -49.03,2.54 ; -50.8,-2.54 50.8,-2.54 50.8,2.54 -50.8,2.54 -50.8,-2.54
  text "'.Designator'" at -4.047,-2.68 h1
Top Courtyard:
  lines w0.254: -51.3,-4.17 51.3,-4.17 51.3,4.17 -51.3,4.17 -51.3,-4.17
Top Designator:
  text ".Designator" at -7.618,-0.508 h1.52